# Altium schematic symbol library LT3470.SchLib: 1 symbol
Pins are listed as number, name and electrical type; pins without a type are passive.

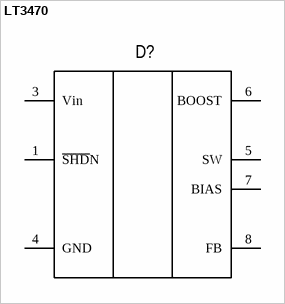
[diagram p0: symbol LT3470]

## LT3470
designator D?
pins: 1 ~{SHD}N, 3 Vin, 4 GND, 5 SW, 6 BOOST, 7 BIAS, 8 FB